# Altium schematic symbol library BrauV2_Transistor.SchLib: 2 symbols
Pins are listed as number, name and electrical type; pins without a type are passive.

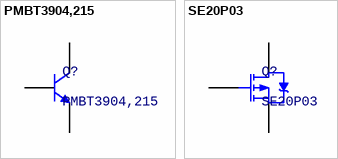
[diagram p0: symbols PMBT3904,215 to SE20P03]

## PMBT3904,215
designator Q?
NPN 200mA 40V 250mW SOT-23(SOT-23-3) Transistors (NPN/PNP) RoHS
footprint SOT23-3
pins: 1 B, 2 E, 3 C

## SE20P03
designator Q?
P-Channel 30V 19A 3V @ 250uA 50mΩ @ 10A,10V 30W TO-252-2(DPAK) MOSFET RoHS
footprint TO-252
pins: 1 G, 2 D, 3 S